# Altium footprint library mylib.PcbLib: 214 footprints (part 8 of 14)
Each footprint in its own frame and in the unit in brackets; x right, y up, seen from the top. Pads: shape width x height; smd on the part's side, far side on the other; paste and mask are expansions set on the pad; w line width, h text height; cw(c..) or ccw(c..) is an arc to the next point about the centre after c.
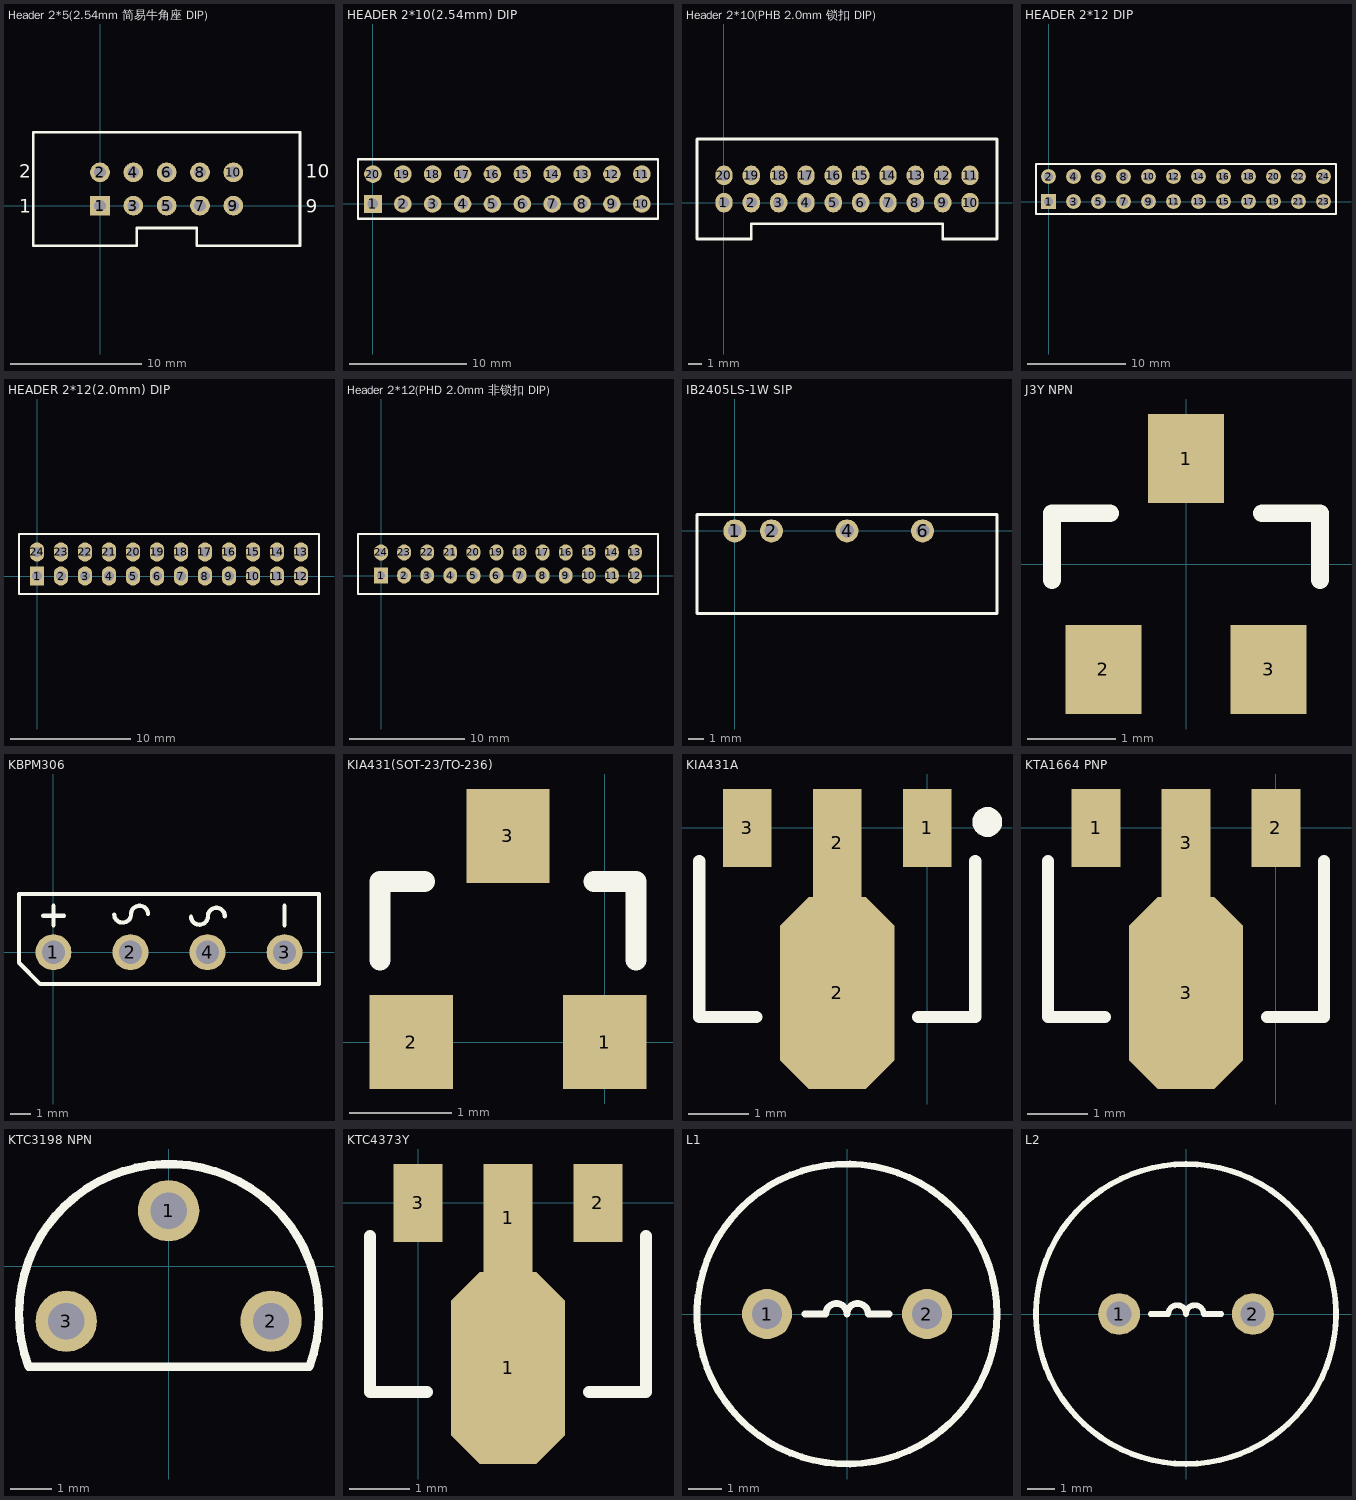
[diagram p7: the footprints below, top view; thin cyan lines are the x and y axes]

## Header 2*5(2.54mm 简易牛角座 DIP) [mil]
pads (10):
  rect 59x59 hole 35: 1(0,0)
  round 59 hole 35: 2(0,100) 3(100,0) 4(100,100) 5(200,0) 6(200,100) 7(300,0) 8(300,100) 9(400,0) 10(400,100)
Top Overlay:
  lines w8: -200,-120 -200,220 600,220 600,-120 290,-120 290,-67 110,-67 110,-120 -200,-120
  text "2" at -243,84 h40
  text "1" at -243,-21 h40
  text "10" at 617,84 h40
  text "9" at 617,-21 h40

## HEADER 2*10(2.54mm) DIP [mil]
pads (20):
  rect 59x59 hole 35: 1(0,0)
  round 59 hole 35: 2(100,0) 3(200,0) 4(300,0) 5(400,0) 6(500,0) 7(600,0) 8(700,0) 9(800,0) 10(900,0) 11(900,100) 12(800,100) 13(700,100) 14(600,100) 15(500,100) 16(400,100) 17(300,100) 18(200,100) 19(100,100) 20(0,100)
Top Overlay:
  lines w8: -50,-50 -50,150 954,150 954,-50 -50,-50

## Header 2*10(PHB 2.0mm 锁扣 DIP) [mil]
pads (20):
  oval 50x56 hole 32: 1(0,0) 2(78.74,0) 3(157.48,0) 4(236.22,0) 5(314.96,0) 6(393.7,0) 7(472.44,0) 8(551.18,0) 9(629.92,0) 10(708.66,0) 11(708.66,78.74) 12(629.92,78.74) 13(551.18,78.74) 14(472.44,78.74) 15(393.7,78.74) 16(314.96,78.74) 17(236.22,78.74) 18(157.48,78.74) 19(78.74,78.74) 20(0,78.74)
Top Overlay:
  lines w8: -77.67,-104.63 78.74,-104.63 78.74,-60.63 629.92,-60.63 629.92,-104.63 786.33,-104.63 786.33,183.37 -77.67,183.37 -77.67,-104.63

## HEADER 2*12 DIP [mm]
pads (24):
  rect 1.5x1.5 hole 0.9: 1(0,0)
  round 1.5 hole 0.9: 2(0,2.54) 3(2.54,0) 4(2.54,2.54) 5(5.08,0) 6(5.08,2.54) 7(7.62,0) 8(7.62,2.54) 9(10.16,0) 10(10.16,2.54) 11(12.7,0) 12(12.7,2.54) 13(15.24,0) 14(15.24,2.54) 15(17.78,0) 16(17.78,2.54) 17(20.32,0) 18(20.32,2.54) 19(22.86,0) 20(22.86,2.54) 21(25.4,0) 22(25.4,2.54) 23(27.94,0) 24(27.94,2.54)
Top Overlay:
  lines w0.2: -1.27,-1.27 -1.27,3.81 29.21,3.81 29.21,-1.27 -1.27,-1.27

## HEADER 2*12(2.0mm) DIP [mm]
pads (24):
  rect 1.2x1.6 hole 0.8: 1(0,0)
  oval 1.2x1.6 hole 0.8: 2(2,0) 3(4,0) 4(6,0) 5(8,0) 6(10,0) 7(12,0) 8(14,0) 9(16,0) 10(18,0) 11(20,0) 12(22,0) 13(22,2) 14(20,2) 15(18,2) 16(16,2) 17(14,2) 18(12,2) 19(10,2) 20(8,2) 21(6,2) 22(4,2) 23(2,2) 24(0,2)
Top Overlay:
  lines w0.203: -1.5,-1.5 23.5,-1.5 23.5,3.5 -1.5,3.5 -1.5,-1.5

## Header 2*12(PHD 2.0mm 非锁扣 DIP) [mm]
pads (24):
  rect 1.2x1.4 hole 0.7: 1(0,0)
  oval 1.2x1.4 hole 0.7: 2(2,0) 3(4,0) 4(6,0) 5(8,0) 6(10,0) 7(12,0) 8(14,0) 9(16,0) 10(18,0) 11(20,0) 12(22,0) 13(22,2) 14(20,2) 15(18,2) 16(16,2) 17(14,2) 18(12,2) 19(10,2) 20(8,2) 21(6,2) 22(4,2) 23(2,2) 24(0,2)
Top Overlay:
  lines w0.203: -2,-1.6 -2,3.6 24,3.6 24,-1.6 -2,-1.6

## IB2405LS-1W SIP [mil]
pads (4):
  round 59 hole 35: 1(0,0) 2(94,0) 4(288,0) 6(482,0)
Top Overlay:
  lines w8: -97,-212 -97,42 673,42 673,-212 -97,-212

## J3Y NPN [mil]
pads (3):
  rect 34x40 smd: 1(0,47.24) 2(-37,-47.24) 3(37,-47.24)
Top Overlay:
  lines w8: -60,-7.24 -60,22.76 -34,22.76 ; 34,22.76 60,22.76 60,-7.24

## KBPM306 [mil]
pads (4):
  round 68 hole 44: 1(0,0) 2(145.67,0) 3(437.01,0) 4(291.34,0)
Top Overlay:
  lines w8: -19,69 20,69 ; 0,51 0,88 ; 114.86,70.99 ccw(c130.83,72) 146.83,72 cw(c162.83,72) 178.83,72 ; 260.03,66.99 ccw(c276,68) 292,68 cw(c308,68) 324,68 ; 437,51 437,88 ; -65,-20 -25,-60 502.01,-60 502.01,110 -65,110 -65,-20

## KIA431(SOT-23/TO-236) [mil]
pads (3):
  rect 32x36 smd: 1(0,0) 2(-74,0) 3(-37,79)
Top Overlay:
  lines w8: -86,31.52 -86,61.52 -69,61.52 ; -4,61.52 12,61.52 12,31.52

## KIA431A [mil] "SOT89, 3-Leads, Body 4.5x2.4mm (max), Pitch 1.50mm, Lead Span 4.1mm, IPC Medium Density"
height 62.99
pads (4):
  rect 32x51 smd: 1(0,0) 3(-118.11,0)
  oct 75x126 smd: 2(-59.06,-108.27)
  rect 32x70.87 smd: 2(-59.06,-9.84)
Top Overlay:
  circle w9.84: c39.37,3.94 r4.92
  lines w8: -149.61,-21.65 -149.61,-124.02 -112.2,-124.02 ; -5.91,-124.02 31.5,-124.02 31.5,-21.65

## KTA1664 PNP [mil]
pads (4):
  rect 32x51 smd: 1(-118.11,0) 2(0,0)
  oct 75x126 smd: 3(-59.06,-108.27)
  rect 32x70.87 smd: 3(-59.06,-9.84)
Top Overlay:
  lines w8: -149.61,-21.65 -149.61,-124.02 -112.2,-124.02 ; -5.91,-124.02 31.5,-124.02 31.5,-21.65

## KTC3198 NPN [mil]
pads (3):
  round 59 hole 35: 1(0,53.15) 2(98.43,-53.15) 3(-98.43,-53.15)
Top Overlay:
  lines w8: -134.63,-96.78 cw(c0.4,-46.14) 135.47,-96.66 ; -134.43,-96.7 135.47,-96.7

## KTC4373Y [mil]
pads (4):
  oct 75x126 smd: 1(59.06,-108.27)
  rect 32x70.87 smd: 1(59.06,-9.84)
  rect 32x51 smd: 2(118.11,0) 3(0,0)
Top Overlay:
  lines w8: -31.5,-21.65 -31.5,-124.02 5.91,-124.02 ; 112.2,-124.02 149.61,-124.02 149.61,-21.65

## L1 [mm]
pads (2):
  round 1.5 hole 0.9: 1(-2.4,0) 2(2.4,0)
Top Overlay:
  circle w0.203: c0,0 r4.5
  lines w0.203: -1.27,0 -0.635,0 cw(c-0.318,0) 0,0 cw(c0.318,0) 0.635,0 1.27,0

## L2 [mm]
pads (2):
  round 1.5 hole 0.9: 1(-2.4,0) 2(2.4,0)
Top Overlay:
  circle w0.203: c0,0 r5.383
  lines w0.203: -1.27,0 -0.635,0 cw(c-0.318,0) 0,0 cw(c0.318,0) 0.635,0 1.27,0